# EAGLE library part DS1388 (library mike)
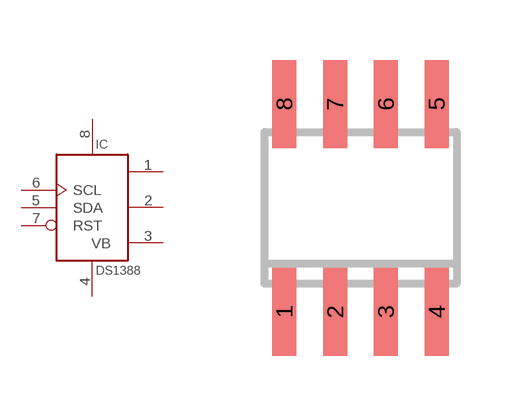
[diagram p4: symbol with the pads of SOIC8; footprint SOIC8]

Designator prefix IC

## DS1388  [SOIC8]
1  X1  pas
2  X2  pas
3  VB  pwr
4  GND  pwr
5  SDA
6  SCL  in
7  RST  out
8  VCC  pwr

## Footprint SOIC8 (pad centres in mm)
Small Outline IC
smd 0.6 x 2.2: 1 -1.905,-2.6; 2 -0.635,-2.6; 3 0.635,-2.6; 4 1.905,-2.6; 5 1.905,2.6; 6 0.635,2.6; 7 -0.635,2.6; 8 -1.905,2.6